# Altium footprint library Crystal.PcbLib: 180 footprints (part 11 of 12)
Each footprint in its own frame and in the unit in brackets; x right, y up, seen from the top. Pads: shape width x height; smd on the part's side, far side on the other; paste and mask are expansions set on the pad; w line width, h text height; cw(c..) or ccw(c..) is an arc to the next point about the centre after c.
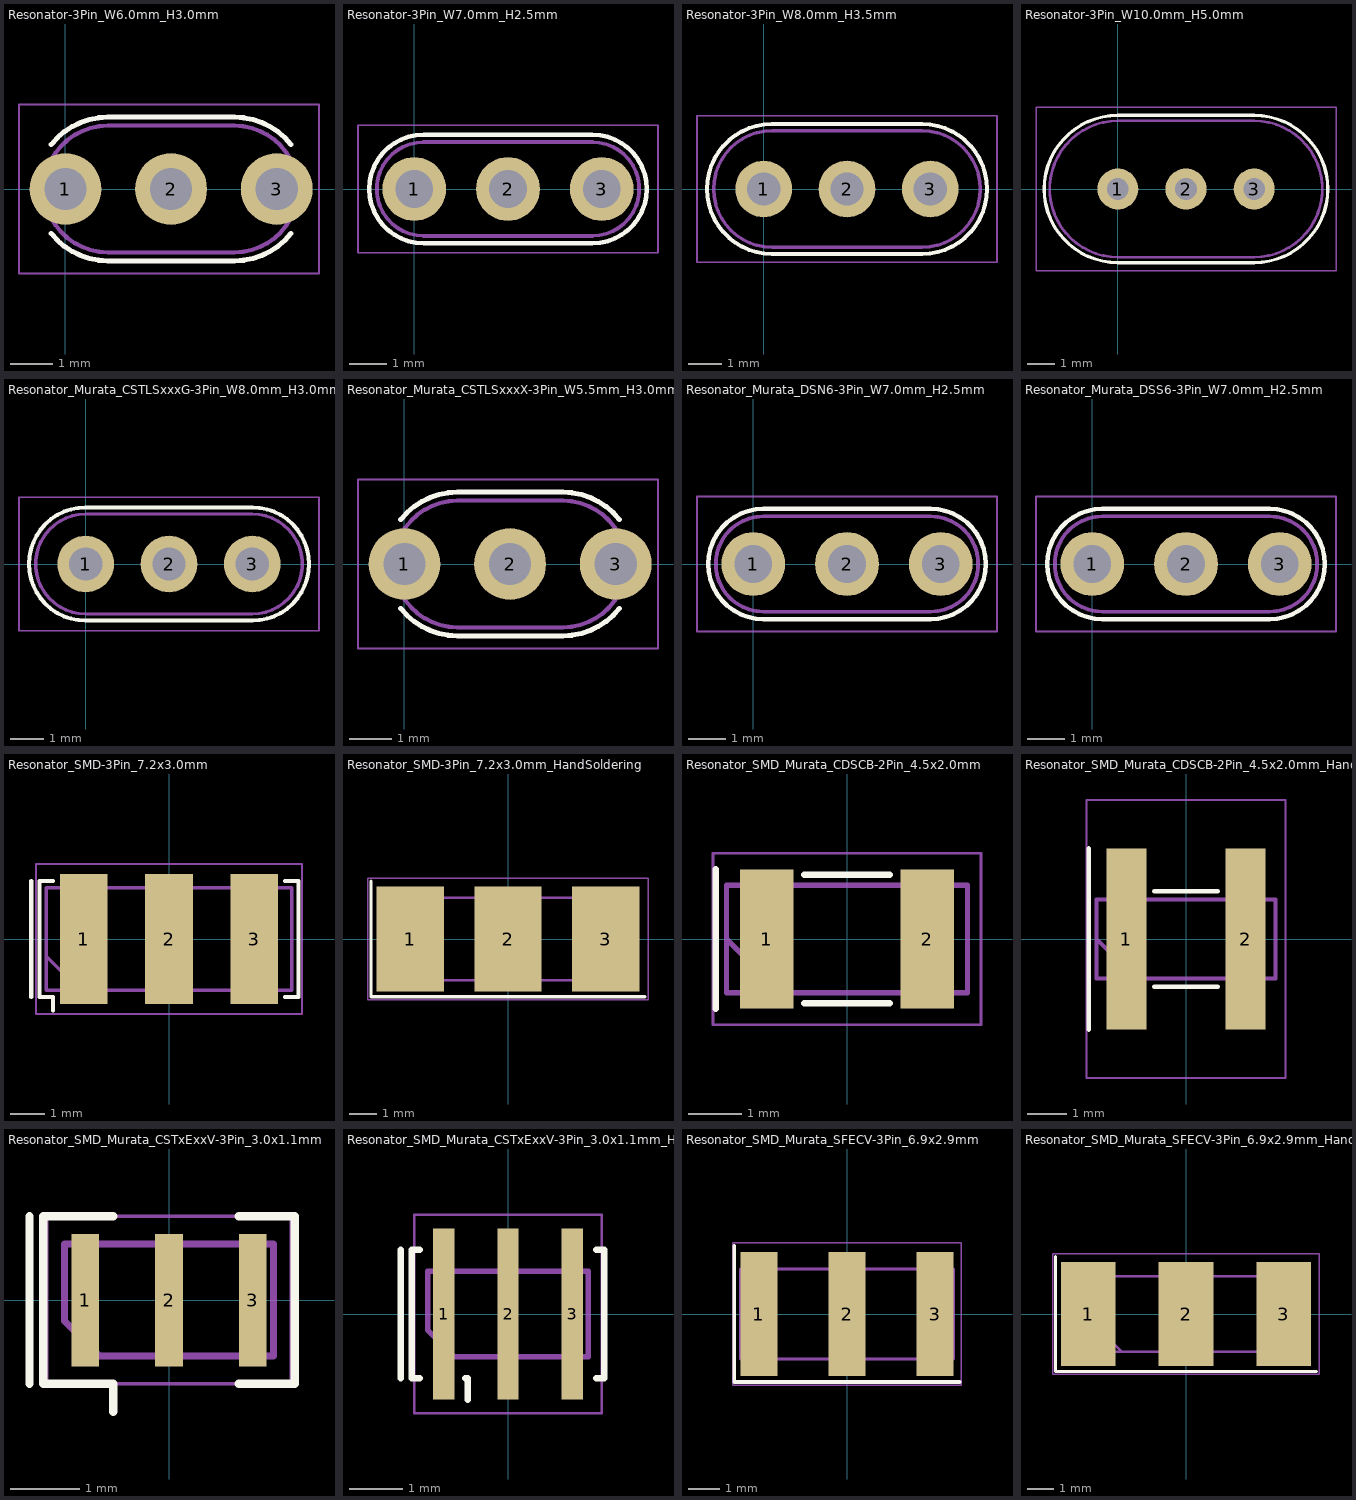
[diagram p10: the footprints below, top view; thin cyan lines are the x and y axes]

## Resonator-3Pin_W6.0mm_H3.0mm [mm]
pads (3):
  round 1.7 hole 1: 1(0,0) 2(2.5,0) 3(5,0)
F.SilkS:
  lines w0.12: -0.338,-1.049 ccw(c1,0) 1,-1.7 4,-1.7 ccw(c4,0) 5.338,-1.049 ; -0.338,1.049 cw(c1,0) 1,1.7 4,1.7 cw(c4,0) 5.338,1.049
F.CrtYd:
  lines w0.05: -1.1,-2 -1.1,2 6,2 6,-2 -1.1,-2
F.Fab:
  lines w0.1: 1,-1.5 4,-1.5 ; 1,-1.5 4,-1.5 ; 1,-1.5 cw(c1,0) 1,1.5 ; 1,-1.5 cw(c1,0) 1,1.5 ; 1,1.5 4,1.5 ; 1,1.5 4,1.5 ; 4,-1.5 ccw(c4,0) 4,1.5 ; 4,-1.5 ccw(c4,0) 4,1.5
  text "'.Designator'" at -1.547,-0.84 h1

## Resonator-3Pin_W7.0mm_H2.5mm [mm]
pads (3):
  round 1.7 hole 1: 1(0,0) 2(2.5,0) 3(5,0)
F.SilkS:
  lines w0.12: 0.25,-1.45 4.75,-1.45 ccw(c4.75,0) 4.75,1.45 0.25,1.45 ccw(c0.25,0) 0.25,-1.45
F.CrtYd:
  lines w0.05: -1.5,-1.7 6.5,-1.7 6.5,1.7 -1.5,1.7 -1.5,-1.7
F.Fab:
  lines w0.1: 0.25,-1.25 4.75,-1.25 ; 0.25,-1.25 4.75,-1.25 ; 0.25,-1.25 cw(c0.25,0) 0.25,1.25 ; 0.25,-1.25 cw(c0.25,0) 0.25,1.25 ; 0.25,1.25 4.75,1.25 ; 0.25,1.25 4.75,1.25 ; 4.75,-1.25 ccw(c4.75,0) 4.75,1.25 ; 4.75,-1.25 ccw(c4.75,0) 4.75,1.25
  text "'.Designator'" at -1.547,-0.84 h1

## Resonator-3Pin_W8.0mm_H3.5mm [mm]
pads (3):
  round 1.7 hole 1: 1(0,0) 2(2.5,0) 3(5,0)
F.SilkS:
  lines w0.12: 0.25,-1.95 4.75,-1.95 ccw(c4.75,0) 4.75,1.95 0.25,1.95 ccw(c0.25,0) 0.25,-1.95
F.CrtYd:
  lines w0.05: -2,-2.2 7,-2.2 7,2.2 -2,2.2 -2,-2.2
F.Fab:
  lines w0.1: 0.25,-1.75 4.75,-1.75 ; 0.25,-1.75 4.75,-1.75 ; 0.25,-1.75 cw(c0.25,0) 0.25,1.75 ; 0.25,-1.75 cw(c0.25,0) 0.25,1.75 ; 0.25,1.75 4.75,1.75 ; 0.25,1.75 4.75,1.75 ; 4.75,-1.75 ccw(c4.75,0) 4.75,1.75 ; 4.75,-1.75 ccw(c4.75,0) 4.75,1.75
  text "'.Designator'" at -1.547,-0.84 h1

## Resonator-3Pin_W10.0mm_H5.0mm [mm]
pads (3):
  round 1.5 hole 0.8: 1(0,0) 2(2.5,0) 3(5,0)
F.SilkS:
  lines w0.12: 0,-2.7 5,-2.7 ccw(c5,0) 5,2.7 0,2.7 ccw(c0,0) 0,-2.7
F.CrtYd:
  lines w0.05: -3,-3 8,-3 8,3 -3,3 -3,-3
F.Fab:
  lines w0.1: 0,-2.5 5,-2.5 ; 0,-2.5 5,-2.5 ; 0,-2.5 cw(c0,0) 0,2.5 ; 0,-2.5 cw(c0,0) 0,2.5 ; 0,2.5 5,2.5 ; 0,2.5 5,2.5 ; 5,-2.5 ccw(c5,0) 5,2.5 ; 5,-2.5 ccw(c5,0) 5,2.5
  text "'.Designator'" at -1.547,-0.84 h1

## Resonator_Murata_CSTLSxxxG-3Pin_W8.0mm_H3.0mm [mm]
pads (3):
  round 1.7 hole 1: 1(0,0) 2(2.5,0) 3(5,0)
F.SilkS:
  lines w0.12: 0,-1.7 cw(c0,0) 0,1.7 5,1.7 cw(c5,0) 5,-1.7 0,-1.7
F.CrtYd:
  lines w0.05: -2,-2 -2,2 7,2 7,-2 -2,-2
F.Fab:
  lines w0.1: 0,-1.5 cw(c0,0) 0,1.5 ; 0,-1.5 cw(c0,0) 0,1.5 ; 0,-1.5 5,-1.5 ; 0,-1.5 5,-1.5 ; 0,1.5 5,1.5 ; 0,1.5 5,1.5 ; 5,-1.5 ccw(c5,0) 5,1.5 ; 5,-1.5 ccw(c5,0) 5,1.5
  text "'.Designator'" at -1.547,-0.84 h1
3D body "Resonator_muRata_CSTLSxxxG-3Pin_W8.0mm_H3.0mm.step": height 8.5, standoff -4, extent -1.5,-1.5 6.5,1.5

## Resonator_Murata_CSTLSxxxX-3Pin_W5.5mm_H3.0mm [mm]
pads (3):
  round 1.7 hole 1: 1(0,0) 2(2.5,0) 3(5,0)
F.SilkS:
  lines w0.12: -0.088,-1.049 ccw(c1.25,0) 1.25,-1.7 3.75,-1.7 ccw(c3.75,0) 5.088,-1.049 ; -0.088,1.049 cw(c1.25,0) 1.25,1.7 3.75,1.7 cw(c3.75,0) 5.088,1.049
F.CrtYd:
  lines w0.05: -1.1,-2 -1.1,2 6,2 6,-2 -1.1,-2
F.Fab:
  lines w0.1: 1.25,-1.5 cw(c1.25,0) 1.25,1.5 ; 1.25,-1.5 cw(c1.25,0) 1.25,1.5 ; 1.25,-1.5 3.75,-1.5 ; 1.25,-1.5 3.75,-1.5 ; 1.25,1.5 3.75,1.5 ; 1.25,1.5 3.75,1.5 ; 3.75,-1.5 ccw(c3.75,0) 3.75,1.5 ; 3.75,-1.5 ccw(c3.75,0) 3.75,1.5
  text "'.Designator'" at -1.547,-0.84 h1
3D body "Resonator_muRata_CSTLSxxxX-3Pin_W5.5mm_H3.0mm.step": height 8.5, standoff -4, extent -0.35,-1.5 5.35,1.5

## Resonator_Murata_DSN6-3Pin_W7.0mm_H2.5mm [mm]
pads (3):
  round 1.7 hole 1: 1(0,0) 2(2.5,0) 3(5,0)
F.SilkS:
  lines w0.12: 0.27,-1.47 cw(c0.27,0) 0.27,1.47 4.73,1.47 cw(c4.73,0) 4.73,-1.47 0.27,-1.47
F.CrtYd:
  lines w0.05: -1.5,-1.8 -1.5,1.8 6.5,1.8 6.5,-1.8 -1.5,-1.8
F.Fab:
  lines w0.1: 0.27,-1.27 cw(c0.27,0) 0.27,1.27 ; 0.27,-1.27 cw(c0.27,0) 0.27,1.27 ; 0.27,-1.27 4.73,-1.27 ; 0.27,-1.27 4.73,-1.27 ; 0.27,1.27 4.73,1.27 ; 0.27,1.27 4.73,1.27 ; 4.73,-1.27 ccw(c4.73,0) 4.73,1.27 ; 4.73,-1.27 ccw(c4.73,0) 4.73,1.27
  text "'.Designator'" at -1.547,-0.84 h1
3D body "Resonator_muRata_DSN6-3Pin_W7.0mm_H2.5mm.step": height 11, standoff -4, extent -1,-1.27 6,1.27

## Resonator_Murata_DSS6-3Pin_W7.0mm_H2.5mm [mm]
pads (3):
  round 1.7 hole 1: 1(0,0) 2(2.5,0) 3(5,0)
F.SilkS:
  lines w0.12: 0.27,-1.47 cw(c0.27,0) 0.27,1.47 4.73,1.47 cw(c4.73,0) 4.73,-1.47 0.27,-1.47
F.CrtYd:
  lines w0.05: -1.5,-1.8 6.5,-1.8 6.5,1.8 -1.5,1.8 -1.5,-1.8
F.Fab:
  lines w0.1: 0.27,-1.27 cw(c0.27,0) 0.27,1.27 ; 0.27,-1.27 cw(c0.27,0) 0.27,1.27 ; 0.27,-1.27 4.73,-1.27 ; 0.27,-1.27 4.73,-1.27 ; 0.27,1.27 4.73,1.27 ; 0.27,1.27 4.73,1.27 ; 4.73,-1.27 ccw(c4.73,0) 4.73,1.27 ; 4.73,-1.27 ccw(c4.73,0) 4.73,1.27
  text "'.Designator'" at -1.547,-0.84 h1
3D body "Resonator_muRata_DSS6-3Pin_W7.0mm_H2.5mm.step": height 10, standoff -4, extent -1,-1.27 6,1.27

## Resonator_SMD-3Pin_7.2x3.0mm [mm]
pads (3):
  rect 1.4x3.8 smd: 1(-2.5,0) 2(0,0) 3(2.5,0)
F.SilkS:
  lines w0.12: -4.04,-1.7 -4.04,1.7 ; -3.4,-2.1 -3.4,-1.7 -3.8,-1.7 -3.8,1.7 -3.4,1.7 ; 3.4,-1.7 3.8,-1.7 3.8,1.7 3.4,1.7
F.CrtYd:
  lines w0.05: -3.9,-2.2 3.9,-2.2 3.9,2.2 -3.9,2.2 -3.9,-2.2
F.Fab:
  lines w0.1: -3.6,-0.5 -2.6,-1.5 ; -3.6,-1.5 -3.6,1.5 3.6,1.5 3.6,-1.5 -3.6,-1.5
  text "'.Designator'" at -4.047,-0.84 h1
3D body "Resonator_SMD-3Pin_7.2x3.0mm.step": height 1.55, standoff 0, extent -3.6,-1.525 3.6,1.525

## Resonator_SMD-3Pin_7.2x3.0mm_HandSoldering [mm]
pads (3):
  rect 2.45x3.8 smd: 1(-3.55,0) 2(0,0) 3(3.55,0)
F.SilkS:
  lines w0.12: -4.975,2.1 -4.975,-2.1 4.975,-2.1
F.CrtYd:
  lines w0.05: -5.1,-2.2 -5.1,2.2 5.1,2.2 5.1,-2.2 -5.1,-2.2
F.Fab:
  lines w0.1: -3.6,-0.5 -2.6,-1.5 ; -3.6,-1.5 -3.6,1.5 3.6,1.5 3.6,-1.5 -3.6,-1.5
  text "'.Designator'" at -4.047,-0.84 h1
3D body "Resonator_SMD-3Pin_7.2x3.0mm.step": height 1.55, standoff 0, extent -3.6,-1.525 3.6,1.525

## Resonator_SMD_Murata_CDSCB-2Pin_4.5x2.0mm [mm]
pads (2):
  rect 1x2.6 smd: 1(-1.5,0) 2(1.5,0)
F.SilkS:
  lines w0.12: -2.45,-1.3 -2.45,1.3 ; -0.8,-1.2 0.8,-1.2 ; -0.8,1.2 0.8,1.2
F.CrtYd:
  lines w0.05: -2.5,-1.6 -2.5,1.6 2.5,1.6 2.5,-1.6 -2.5,-1.6
F.Fab:
  lines w0.1: -2.25,0 -1.25,-1 ; -2.25,-1 -2.25,1 2.25,1 2.25,-1 -2.25,-1
  text "'.Designator'" at -4.047,-0.84 h1

## Resonator_SMD_Murata_CDSCB-2Pin_4.5x2.0mm_HandSoldering [mm]
pads (2):
  rect 1x4.55 smd: 1(-1.5,0) 2(1.5,0)
F.SilkS:
  lines w0.12: -2.45,-2.275 -2.45,2.275 ; -0.8,-1.2 0.8,-1.2 ; -0.8,1.2 0.8,1.2
F.CrtYd:
  lines w0.05: -2.5,-3.5 -2.5,3.5 2.5,3.5 2.5,-3.5 -2.5,-3.5
F.Fab:
  lines w0.1: -2.25,0 -1.25,-1 ; -2.25,-1 2.25,-1 2.25,1 -2.25,1 -2.25,-1
  text "'.Designator'" at -4.047,-0.84 h1

## Resonator_SMD_Murata_CSTxExxV-3Pin_3.0x1.1mm [mm]
pads (3):
  rect 0.4x1.9 smd: 1(-1.2,0) 2(0,0) 3(1.2,0)
F.SilkS:
  lines w0.12: -2,-1.2 -2,-0.8 -2,1.2 ; -0.8,-1.6 -0.8,-1.2 -1.8,-1.2 -1.8,-0.8 -1.8,1.2 -0.8,1.2 ; 1,-1.2 1.8,-1.2 1.8,-0.8 1.8,1.2 1,1.2
F.CrtYd:
  lines w0.05: -1.75,-1.2 -1.75,1.2 1.75,1.2 1.75,-1.2 -1.75,-1.2
F.Fab:
  lines w0.1: -1.5,-0.3 -1.5,0.8 1.5,0.8 1.5,-0.8 -1,-0.8 -1.5,-0.3
  text "'.Designator'" at -2.318,-0.444 h0.6

## Resonator_SMD_Murata_CSTxExxV-3Pin_3.0x1.1mm_HandSoldering [mm]
pads (3):
  rect 0.4x3.2 smd: 1(-1.2,0) 2(0,0) 3(1.2,0)
F.SilkS:
  lines w0.12: -2,-1.2 -2,-0.8 -2,1.2 ; -1.65,-1.2 -1.8,-1.2 -1.8,-0.8 -1.8,1.2 -1.65,1.2 ; -0.8,-1.2 -0.75,-1.2 -0.75,-1.6 ; 1.65,-1.2 1.8,-1.2 1.8,-0.8 1.8,1.2 1.65,1.2
F.CrtYd:
  lines w0.05: -1.75,-1.85 1.75,-1.85 1.75,1.85 -1.75,1.85 -1.75,-1.85
F.Fab:
  lines w0.1: -1.5,-0.3 -1,-0.8 1.5,-0.8 1.5,0.8 -1.5,0.8 -1.5,-0.3
  text "'.Designator'" at -2.318,-0.444 h0.6

## Resonator_SMD_Murata_SFECV-3Pin_6.9x2.9mm [mm]
pads (3):
  rect 1.2x4 smd: 1(-2.85,0) 2(0,0) 3(2.85,0)
F.SilkS:
  lines w0.12: -3.65,2.2 -3.65,-2.2 3.65,-2.2
F.CrtYd:
  lines w0.05: -3.7,-2.3 -3.7,2.3 3.7,2.3 3.7,-2.3 -3.7,-2.3
F.Fab:
  lines w0.1: -3.45,-0.45 -2.45,-1.45 ; -3.45,-1.45 3.45,-1.45 3.45,1.45 -3.45,1.45 -3.45,-1.45
  text "'.Designator'" at -4.047,-0.84 h1

## Resonator_SMD_Murata_SFECV-3Pin_6.9x2.9mm_HandSoldering [mm]
pads (3):
  rect 2.1x4 smd: 1(-3.75,0) 2(0,0) 3(3.75,0)
F.SilkS:
  lines w0.12: -5,2.2 -5,-2.2 5,-2.2
F.CrtYd:
  lines w0.05: -5.1,-2.3 -5.1,2.3 5.1,2.3 5.1,-2.3 -5.1,-2.3
F.Fab:
  lines w0.1: -3.45,-0.45 -2.45,-1.45 ; -3.45,-1.45 3.45,-1.45 3.45,1.45 -3.45,1.45 -3.45,-1.45
  text "'.Designator'" at -4.047,-0.84 h1